# Altium footprint library SGL0622Z.PcbLib: 1 footprints
Each footprint in its own frame and in the unit in brackets; x right, y up, seen from the top. Pads: shape width x height; smd on the part's side, far side on the other; paste and mask are expansions set on the pad; w line width, h text height; cw(c..) or ccw(c..) is an arc to the next point about the centre after c.
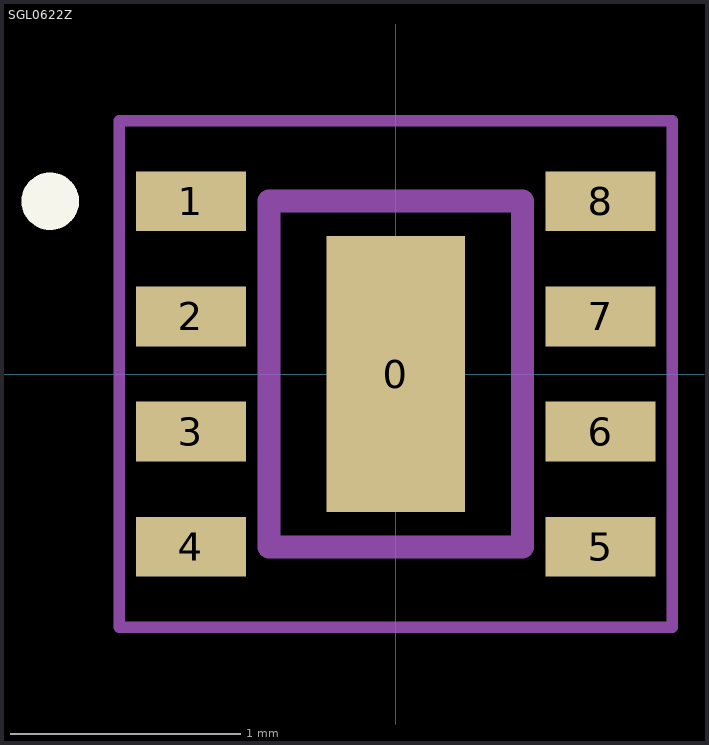
[diagram p0: the footprint, top view; thin cyan lines are the x and y axes]

## SGL0622Z [mm]
pads (9):
  rect 0.6x1.2 smd: 0(0,0)
  rect 0.476x0.26 smd: 1(-0.889,0.75) 2(-0.889,0.25) 3(-0.889,-0.25) 4(-0.889,-0.75) 5(0.889,-0.75) 6(0.889,-0.25) 7(0.889,0.25) 8(0.889,0.75)
Top Overlay:
  circle w0.125: c-1.5,0.75 r0.062
Top Assembly:
  lines w0.1: -0.55,-0.75 -0.55,0.75 0.55,0.75 0.55,-0.75 -0.55,-0.75
Top Courtyard:
  lines w0.05: -1.2,-1.1 1.2,-1.1 1.2,1.1 -1.2,1.1 -1.2,-1.1
3D body: height 0.38, standoff 0, extent -1,-1 1,1